# Altium footprint library PCAP_5x11.PcbLib: 1 footprints
Each footprint in its own frame and in the unit in brackets; x right, y up, seen from the top. Pads: shape width x height; smd on the part's side, far side on the other; paste and mask are expansions set on the pad; w line width, h text height; cw(c..) or ccw(c..) is an arc to the next point about the centre after c.
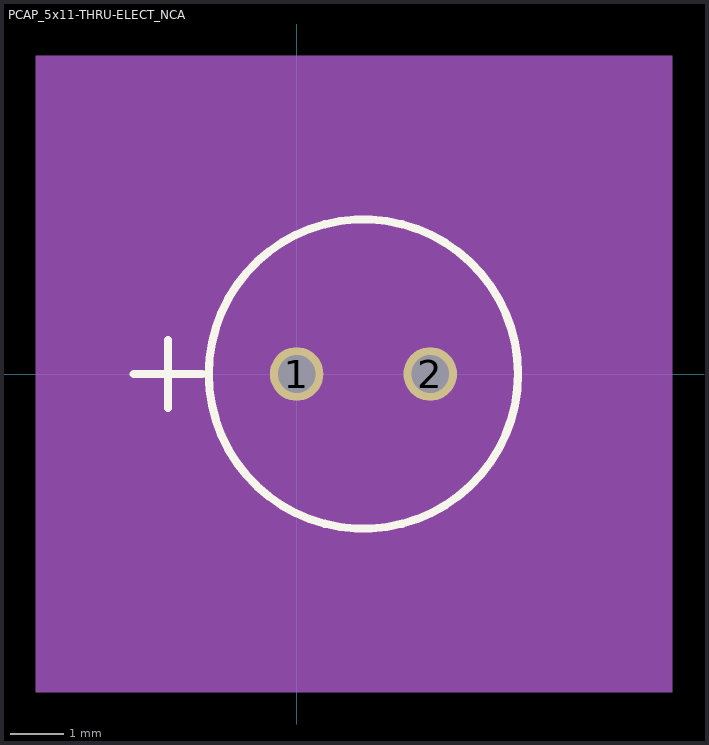
[diagram p0: the footprint, top view; thin cyan lines are the x and y axes]

## PCAP_5x11-THRU-ELECT_NCA [mm]
pads (2):
  round 1 / inner rect 1.27x1.27 / far side round 1 hole 0.7 mask+0: 1(0,0)
  round 1 hole 0.7 mask+0: 2(2.489,0)
Top Overlay:
  circle w0.152: c1.245,0 r2.883
  lines w0.152: -3.035,0 -1.765,0 ; -2.4,-0.635 -2.4,0.635
Mechanical 5:
  region: 7,-5.931 -4.862,-5.931 -4.862,5.931 7,5.931
Mechanical 7:
  lines w0.025: -1.511,0 -1.511,4.407 ; -1.27,-4.026 0,-4.026 ; 0,-4.407 0,0 ; 1.245,-2.756 5.651,-2.756 ; 1.245,2.756 5.651,2.756 ; 2.489,-4.407 2.489,0 ; 3.759,-4.026 2.489,-4.026 ; 4,0 4,4.407 ; -1.511,4.026 4,4.026 ; -1.511,4.026 -1.257,4.153 -1.257,3.899 -1.511,4.026 ; 0,-4.026 -0.254,-3.899 -0.254,-4.153 0,-4.026 ; 2.489,-4.026 2.743,-3.899 2.743,-4.153 2.489,-4.026 ; 4,4.026 3.746,4.153 3.746,3.899 4,4.026 ; 5.271,-2.756 5.271,2.756 ; 5.271,-2.756 5.143,-2.502 5.397,-2.502 5.271,-2.756 ; 5.271,2.756 5.143,2.502 5.397,2.502 5.271,2.756
  text "Pin 1 Pad Style: s127h76" at -6.375,-7.836 h1.27
  text "Default Pad Style: c127h76" at -7.01,-9.741 h1.27
  text "Alt 1 Pad Style: b152_229h76" at -7.645,-11.646 h1.27
  text "Alt 2 Pad Style: b229_152h76" at -7.645,-13.551 h1.27
  text "0.098in/2.489mm" at -1.137,-5.169 h0.64
  text "0.217in/5.512mm" at -1.137,4.534 h0.64
  text "0.217in/5.512mm" at 5.779,-0.318 h0.64
Mechanical 13:
  circle w0: c1.245,0 r2.756
  lines w0.025: -3.035,0 -1.765,0 ; -2.4,-0.635 -2.4,0.635
Mechanical 15:
  region: -1.765,1.239 0.005,3.01 2.484,3.01 4.255,1.239 4.255,-1.239 2.484,-3.01 0.005,-3.01 -1.765,-1.239
  lines w0.152: -1.765,-1.239 0.005,-3.01 2.484,-3.01 4.255,-1.239 4.255,1.239 2.484,3.01 0.005,3.01 -1.765,1.239 -1.765,-1.239
3D body "PCAP_5x11.step": height 12.26, standoff -4.67, extent -1.511,-2.75 4.011,2.762
3D body: height 0.25, standoff 0, extent 0,0 0.254,0.254